# EAGLE library part CY8C21234 (library cypress)
PSoC® Programmable System-on-Chip? M8C Processor Speeds to 24 MHz Source: http://www.cypress.com .. 38-12025_0P_V.pdf
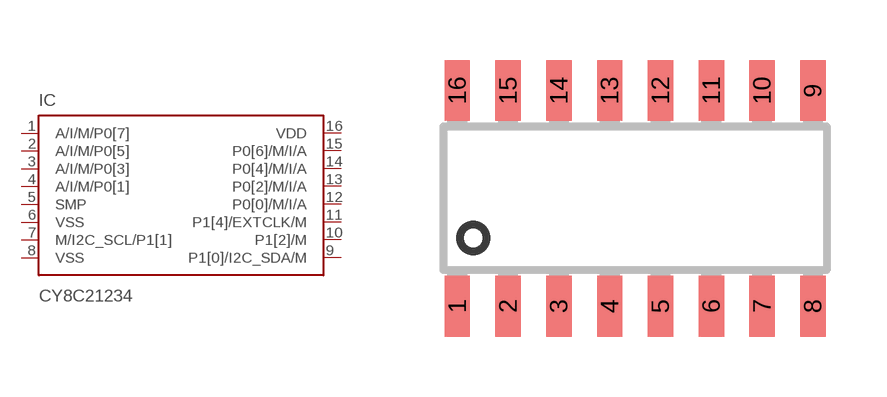
[diagram p15: symbol with the pads of SOIC16; footprint SOIC16]

Designator prefix IC

## CY8C21234  [SOIC16]
1  A/I/M/P0[7]
2  A/I/M/P0[5]
3  A/I/M/P0[3]
4  A/I/M/P0[1]
5  SMP  pwr
6  VSS  pwr
7  M/I2C_SCL/P1[1]
8  VSS  pwr
9  P1[0]/I2C_SDA/M
10  P1[2]/M
11  P1[4]/EXTCLK/M
12  P0[0]/M/I/A
13  P0[2]/M/I/A
14  P0[4]/M/I/A
15  P0[6]/M/I/A
16  VDD  pwr

## Footprint SOIC16 (pad centres in mm)
SMALL OUTLINE INTEGRATED CIRCUIT 16-Pin (150-Mil) SOIC Source: http://www.cypress.com .. 38-12025_0P_V.pdf
smd 0.635 x 1.524: 1 -4.445,-2.695; 2 -3.175,-2.695; 3 -1.905,-2.695; 4 -0.635,-2.695; 5 0.635,-2.695; 6 1.905,-2.695; 7 3.175,-2.695; 8 4.445,-2.695; 9 4.445,2.695; 10 3.175,2.695; 11 1.905,2.695; 12 0.635,2.695; 13 -0.635,2.695; 14 -1.905,2.695; 15 -3.175,2.695; 16 -4.445,2.695